# Altium schematic symbol library Trans_ETD59.SchLib: 1 symbol
Pins are listed as number, name and electrical type; pins without a type are passive.

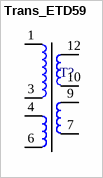
[diagram p0: symbol Trans_ETD59]

## Trans_ETD59
designator T?, comment ETD29  (value not drawn)
footprint TRANS_ETD_29
footprint ETD29_Transformer
pins: 1, 3, 4, 6, 7, 9, 10, 12